# Altium footprint library yeonho.PcbLib: 13 footprints
Each footprint in its own frame and in the unit in brackets; x right, y up, seen from the top. Pads: shape width x height; smd on the part's side, far side on the other; paste and mask are expansions set on the pad; w line width, h text height; cw(c..) or ccw(c..) is an arc to the next point about the centre after c.
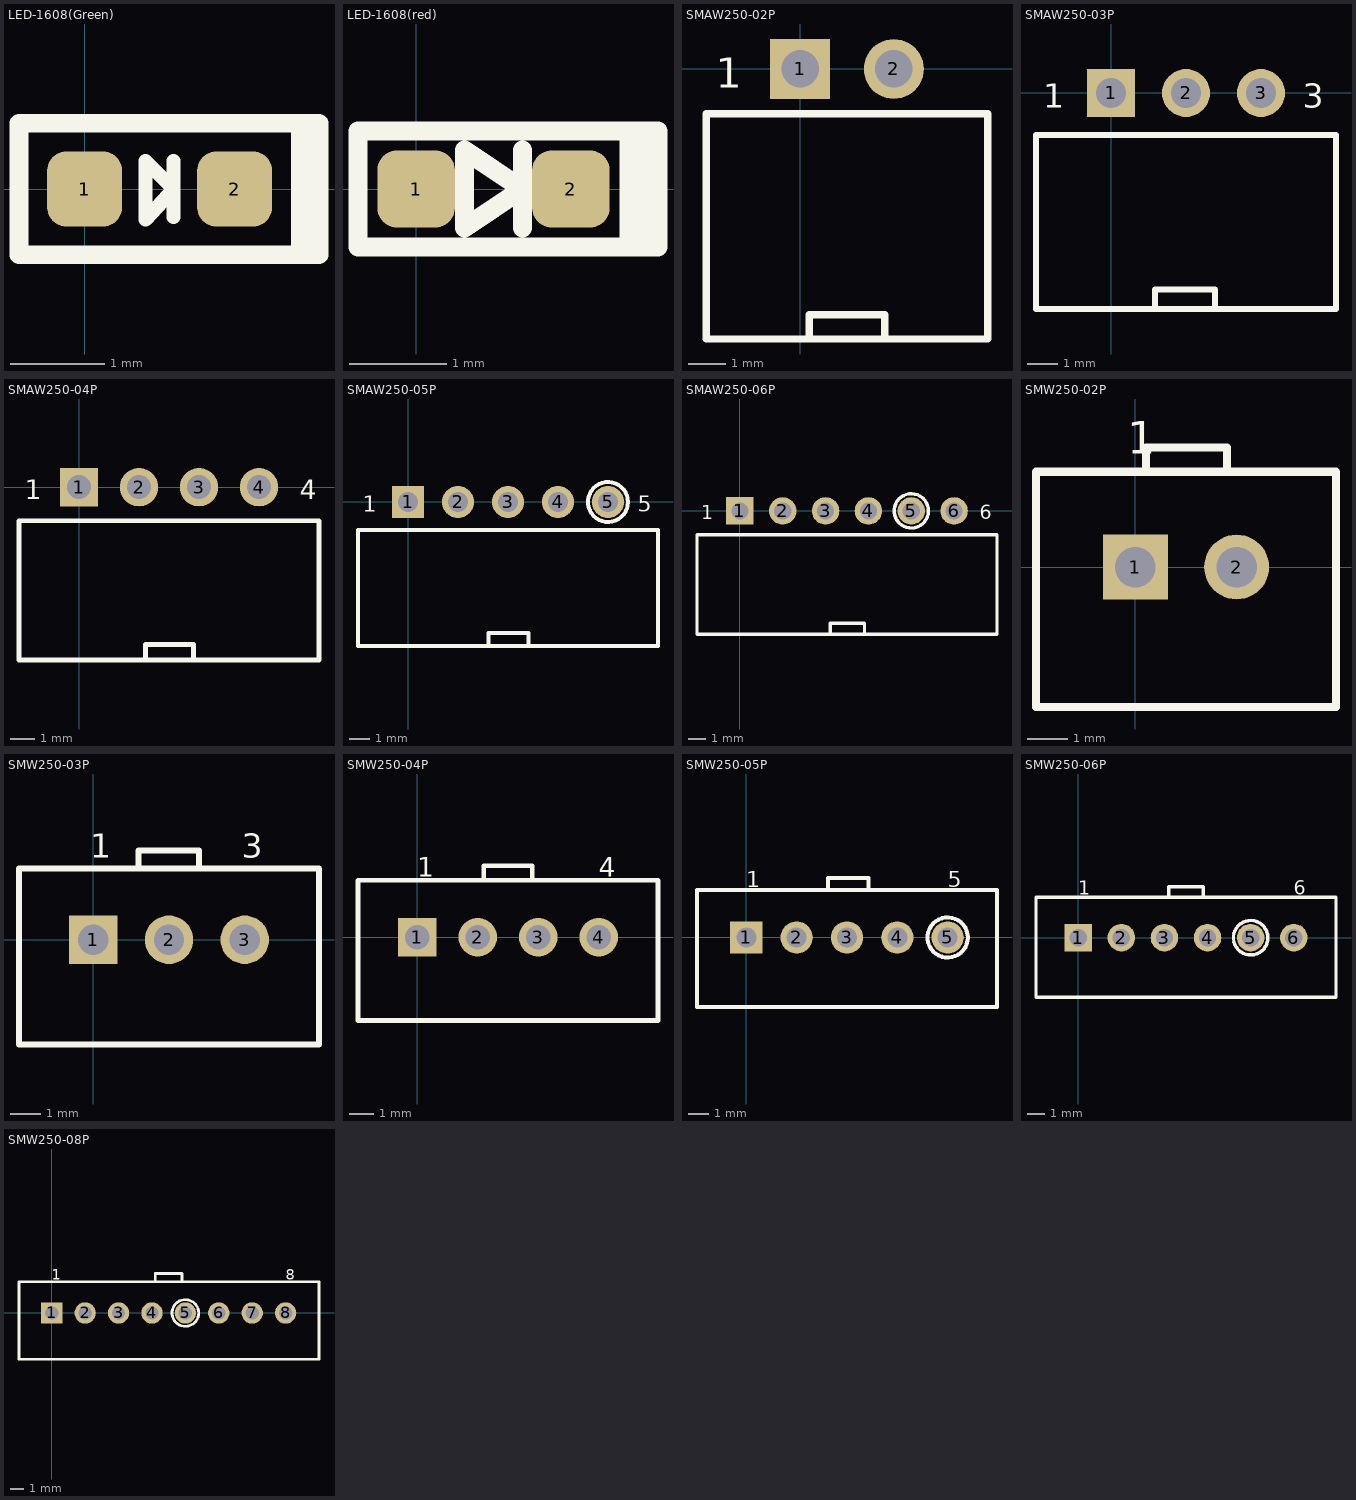
[diagram p0: the footprints below, top view; thin cyan lines are the x and y axes]

## LED-1608(Green) [mm]
pads (2):
  rrect50% 0.8x0.8 smd: 1(0,0) 2(1.6,0)
Top Overlay:
  lines w0.15: 0.65,-0.325 0.95,0 0.65,0.3 0.65,-0.3 ; 0.95,-0.3 0.95,0.3
  lines w0.2: 2.3,-0.6 2.3,0.6 ; -0.7,-0.7 -0.7,0.7 2.5,0.7 2.5,-0.7 -0.7,-0.7 ; 2.4,-0.6 2.4,0.6 2.4,-0.6
3D body "LED-1608(Green).STEP": height 0.78, standoff -0.02, extent 0,-0.4 1.6,0.4

## LED-1608(red) [mm]
pads (2):
  rrect50% 0.8x0.8 smd: 1(0,0) 2(1.6,0)
Top Overlay:
  lines w0.2: 1.1,-0.4 1.1,0.4 ; 2.2,-0.6 2.2,0.6 ; 2.3,-0.6 2.3,0.6 ; 2.4,-0.6 2.4,0.6 ; -0.6,-0.6 2.5,-0.6 2.5,0.6 -0.6,0.6 -0.6,-0.6 ; 0.5,-0.4 0.5,0.4 1.1,0 0.5,-0.4
3D body "LED-1608(Red).STEP": height 0.78, standoff -0.02, extent 0,-0.4 1.6,0.4

## SMAW250-02P [mm]
pads (2):
  rect 1.6x1.6 hole 1: 1(0,0)
  round 1.6 hole 1: 2(2.5,0)
Top Overlay:
  lines w0.2: 0.25,-7.2 0.25,-6.55 2.25,-6.55 2.25,-7.2 ; -2.5,-7.2 5,-7.2 5,-1.2 -2.5,-1.2 -2.5,-7.2
  text "1" at -2.25,-0.5 h0.8
3D body "SMAW250-02P-Yale.STEP": height 6.4, standoff -3.5, extent -2.501,-7.2 5,0.325

## SMAW250-03P [mm]
pads (3):
  rect 1.6x1.6 hole 1: 1(0,0)
  round 1.6 hole 1: 2(2.5,0) 3(5,0)
Top Overlay:
  lines w0.2: 1.47,-7.2 1.47,-6.55 3.47,-6.55 3.47,-7.2 ; -2.5,-7.2 -2.5,-1.4 7.5,-1.4 7.5,-7.2 -2.5,-7.2
  text "3" at 6.4,-0.5 h0.8
  text "1" at -2.25,-0.5 h0.8
3D body "SMAW250-03P-Yale.STEP": height 6.4, standoff -3.5, extent -2.501,-7.2 7.5,0.325

## SMAW250-04P [mm]
pads (4):
  rect 1.6x1.6 hole 1: 1(0,0)
  round 1.6 hole 1: 2(2.5,0) 3(5,0) 4(7.5,0)
Top Overlay:
  lines w0.2: 2.77,-7.2 2.77,-6.55 4.77,-6.55 4.77,-7.2 ; -2.5,-7.2 10,-7.2 10,-1.4 -2.5,-1.4 -2.5,-7.2
  text "1" at -2.25,-0.5 h0.8
  text "4" at 9.2,-0.5 h0.8
3D body "SMAW-250-04P-Yale.STEP": height 6.4, standoff -3.5, extent -2.501,-7.2 10,0.325

## SMAW250-05P [mm]
pads (5):
  rect 1.6x1.6 hole 1: 1(0,0)
  round 1.6 hole 1: 2(2.5,0) 3(5,0) 4(7.5,0) 5(10,0)
Top Overlay:
  circle w0.2: c10,0 r1
  lines w0.2: 4.02,-7.2 4.02,-6.55 6.02,-6.55 6.02,-7.2 ; -2.5,-7.2 -2.5,-1.4 12.5,-1.4 12.5,-7.2 -2.5,-7.2
  text "1" at -2.25,-0.5 h0.8
  text "5" at 11.5,-0.5 h0.8
3D body "SMAW250-05P-Yale.STEP": height 6.4, standoff -3.5, extent -2.501,-7.2 12.5,0.325

## SMAW250-06P [mm]
pads (6):
  rect 1.6x1.6 hole 1: 1(0,0)
  round 1.6 hole 1: 2(2.5,0) 3(5,0) 4(7.5,0) 5(10,0) 6(12.5,0)
Top Overlay:
  circle w0.2: c10,0 r1
  lines w0.2: 5.27,-7.2 5.27,-6.55 7.27,-6.55 7.27,-7.2 ; -2.5,-7.2 -2.5,-1.4 15,-1.4 15,-7.2 -2.5,-7.2
  text "1" at -2.25,-0.5 h0.8
  text "6" at 14,-0.5 h0.8
3D body "SMAW250-06P-Yale.STEP": height 6.49, standoff -3.41, extent -2.501,-7.2 15,0.325

## SMW250-02P [mm]
height 14.2
pads (2):
  rect 1.6x1.6 hole 1: 1(0,0)
  round 1.6 hole 1: 2(2.5,0)
Top Overlay:
  lines w0.2: 0.265,2.35 0.265,2.95 2.265,2.95 2.265,2.35 ; -2.45,-3.45 -2.45,2.35 4.95,2.35 4.95,-3.45 -2.45,-3.45
  text "1" at -0.2,2.8 h0.8
3D body "SMW250-02P-Yale.STEP": height 7, standoff -3.5, extent -2.45,-3.45 4.95,2.951

## SMW250-03P [mm]
height 14.2
pads (3):
  rect 1.6x1.6 hole 1: 1(0,0)
  round 1.6 hole 1: 2(2.5,0) 3(5,0)
Top Overlay:
  lines w0.2: 1.495,2.35 1.495,2.95 3.495,2.95 3.495,2.35 ; -2.45,-3.45 -2.45,2.35 7.45,2.35 7.45,-3.45 -2.45,-3.45
  text "3" at 4.9,2.7 h0.8
  text "1" at -0.1,2.7 h0.8
3D body "SMW-250-03P-Yale.STEP": height 7, standoff -3.5, extent -2.45,-3.45 7.45,2.951

## SMW250-04P [mm]
pads (4):
  rect 1.6x1.6 hole 1: 1(0,0)
  round 1.6 hole 1: 2(2.5,0) 3(5,0) 4(7.5,0)
Top Overlay:
  lines w0.2: 2.75,2.35 2.75,2.95 4.75,2.95 4.75,2.35 ; -2.45,-3.45 -2.45,2.35 9.95,2.35 9.95,-3.45 -2.45,-3.45
  text "1" at 0,2.5 h0.8
  text "4" at 7.5,2.5 h0.8
3D body "SMW250-04P-Yale.STEP": height 7, standoff -3.5, extent -2.45,-3.45 9.95,2.951

## SMW250-05P [mm]
pads (5):
  rect 1.6x1.6 hole 1: 1(0,0)
  round 1.6 hole 1: 2(2.5,0) 3(5,0) 4(7.5,0) 5(10,0)
Top Overlay:
  circle w0.2: c10,0 r1
  lines w0.2: 4.06,2.35 4.06,2.95 6.06,2.95 6.06,2.35 ; -2.45,-3.45 -2.45,2.35 12.45,2.35 12.45,-3.45 -2.45,-3.45
  text "5" at 10,2.5 h0.8
  text "1" at 0,2.5 h0.8
3D body "SWM250-05P-Yale.STEP": height 7, standoff -3.5, extent -2.45,-3.45 12.45,2.951

## SMW250-06P [mm]
pads (6):
  rect 1.6x1.6 hole 1: 1(0,0)
  round 1.6 hole 1: 2(2.5,0) 3(5,0) 4(7.5,0) 5(10,0) 6(12.5,0)
Top Overlay:
  circle w0.2: c10,0 r1
  lines w0.2: 5.25,2.35 5.25,2.95 7.25,2.95 7.25,2.35 ; -2.45,-3.45 14.95,-3.45 14.95,2.35 -2.45,2.35 -2.45,-3.45
  text "1" at 0,2.5 h0.8
  text "6" at 12.5,2.5 h0.8
3D body "SMW250-06P-Yale.STEP": height 7, standoff -3.5, extent -2.45,-3.45 14.95,2.951

## SMW250-08P [mm]
pads (8):
  rect 1.6x1.6 hole 1: 1(0,0)
  round 1.6 hole 1: 2(2.5,0) 3(5,0) 4(7.5,0) 5(10,0) 6(12.5,0) 7(15,0) 8(17.5,0)
Top Overlay:
  circle w0.2: c10,0 r1
  lines w0.2: 7.75,2.35 7.75,2.95 9.75,2.95 9.75,2.35 ; -2.45,-3.45 -2.45,2.35 20,2.35 20,-3.45 -2.45,-3.45
  text "8" at 17.5,2.5 h0.8
  text "1" at 0,2.5 h0.8
3D body "353120860.stp": height 7, standoff -3.4, extent -2.33,-3.8 20.13,2.7